# Altium footprint library DIODES_SO-8.PcbLib: 1 footprints
Each footprint in its own frame and in the unit in brackets; x right, y up, seen from the top. Pads: shape width x height; smd on the part's side, far side on the other; paste and mask are expansions set on the pad; w line width, h text height; cw(c..) or ccw(c..) is an arc to the next point about the centre after c.
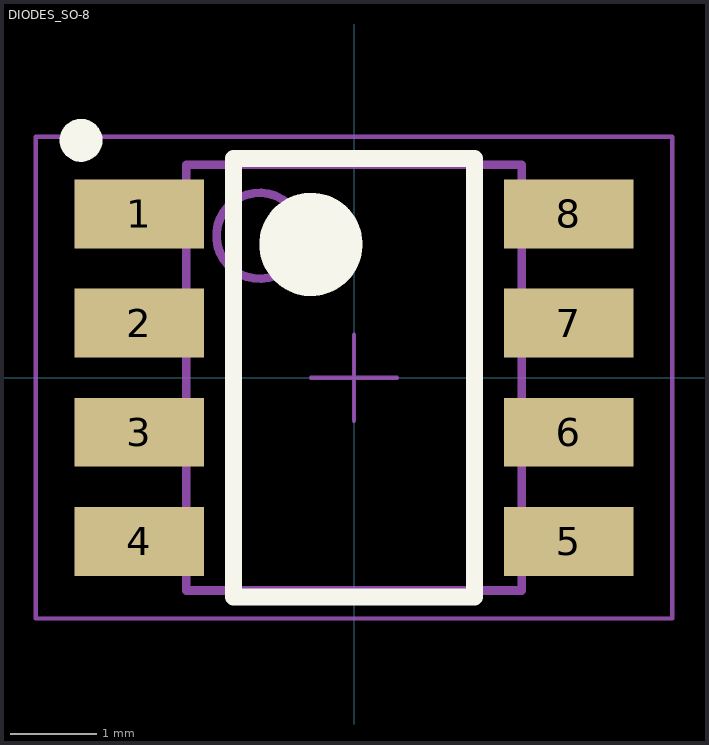
[diagram p0: the footprint, top view; thin cyan lines are the x and y axes]

## DIODES_SO-8 [mm] "DIODES_SO-8"
height 1.5
pads (8):
  rect 1.505x0.802 smd: 1(-2.498,1.905) 2(-2.498,0.635) 3(-2.498,-0.635) 4(-2.498,-1.905) 5(2.498,-1.905) 6(2.498,-0.635) 7(2.498,0.635) 8(2.498,1.905)
Top Overlay:
  circle w0.6: c-0.5,1.55 r0.3
  circle w0.25: c-3.175,2.76 r0.125
  lines w0.2: -1.4,-2.55 1.4,-2.55 1.4,2.55 -1.4,2.55 -1.4,-2.55
Top 3D Body:
  circle w0.1: c-1.1,1.65 r0.5
  lines w0.1: -1.95,-2.475 1.95,-2.475 1.95,2.475 -1.95,2.475 -1.95,-2.475
Top Courtyard (Mech15):
  lines w0.05: -0.5,0 0.5,0 ; 0,-0.5 0,0.5 ; -3.7,-2.8 3.7,-2.8 3.7,2.8 -3.7,2.8 -3.7,-2.8
3D body "DIODES_SO-8.stp": height 1.6, standoff 0, extent -3.001,-2.451 3.001,2.451